# Altium footprint library TS2134035BK160SMTTR.PcbLib: 1 footprints
Each footprint in its own frame and in the unit in brackets; x right, y up, seen from the top. Pads: shape width x height; smd on the part's side, far side on the other; paste and mask are expansions set on the pad; w line width, h text height; cw(c..) or ccw(c..) is an arc to the next point about the centre after c.
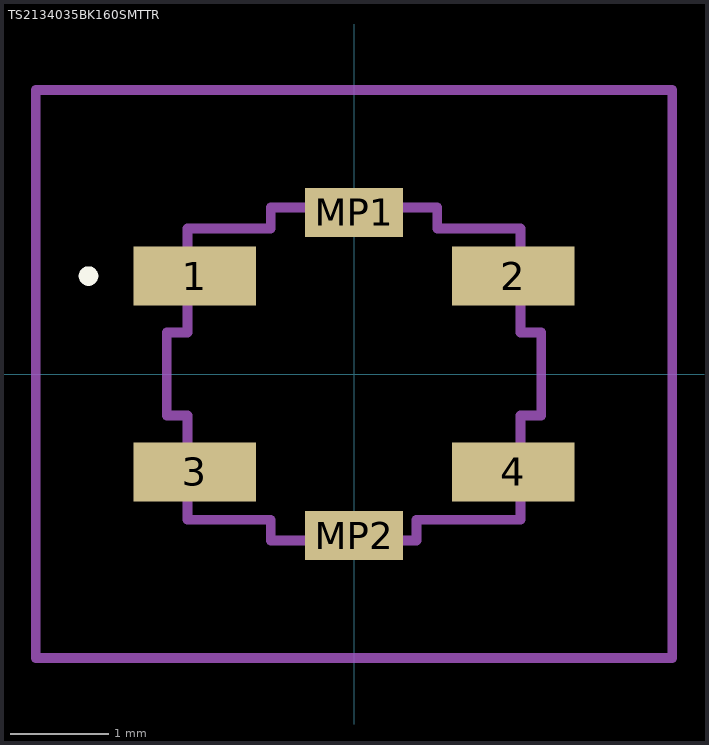
[diagram p0: the footprint, top view; thin cyan lines are the x and y axes]

## TS2134035BK160SMTTR [mm]
pads (6):
  rect 1.25x0.6 smd: 1(-1.625,1) 2(1.625,1) 3(-1.625,-1) 4(1.625,-1)
  rect 1x0.5 smd: MP1(0,1.65) MP2(0,-1.65)
Top Overlay:
  lines w0.1: -2.762,1 -2.762,1 ; -2.762,1 ccw(c-2.712,1) -2.662,1 ; -2.762,1 cw(c-2.712,1) -2.662,1 ; -2.662,1 -2.662,1
Mechanical 15:
  lines w0.1: -1.912,-0.425 -1.912,0.425 -1.7,0.425 -1.7,1.487 -0.85,1.487 -0.85,1.7 0,1.7 0.85,1.7 0.85,1.487 1.7,1.487 1.7,0.425 1.912,0.425 1.912,-0.425 1.7,-0.425 1.7,-1.488 0.638,-1.488 0.638,-1.7 -0.85,-1.7 -0.85,-1.488 -1.7,-1.488 -1.7,-0.425 -1.912,-0.425
Mechanical 20:
  lines w0.1: -3.25,-2.9 3.25,-2.9 3.25,2.9 -3.25,2.9 -3.25,-2.9